# EAGLE library part LTC1731 (library adafruit_M)
Linear Tech LTC1731 lipoly charger By microbuilder.eu
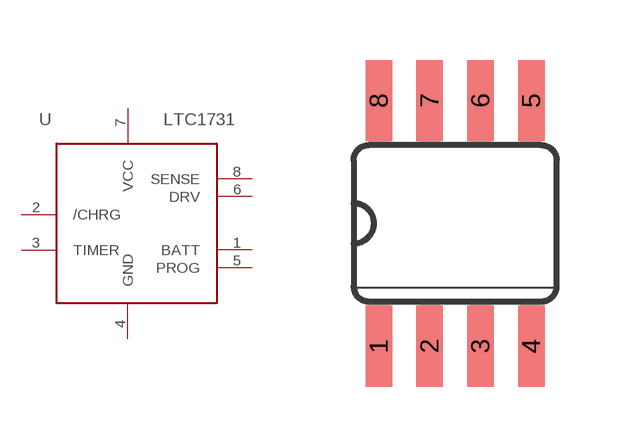
[diagram p1: symbol with the pads of SO08; footprint SO08]

Designator prefix -

## LTC1731  [SO08]
1  BATT  out
2  /CHRG
3  TIMER  pas
4  GND  sup
5  PROG  pas
6  DRV  out
7  VCC  sup
8  SENSE

## Footprint SO08 (pad centres in mm)
smd 0.66 x 2.032: 1 -1.905,-3.073; 2 -0.635,-3.073; 3 0.635,-3.073; 4 1.905,-3.073; 5 1.905,3.073; 6 0.635,3.073; 7 -0.635,3.073; 8 -1.905,3.073